# EAGLE library part SI-60062-F (library r2p_connector)
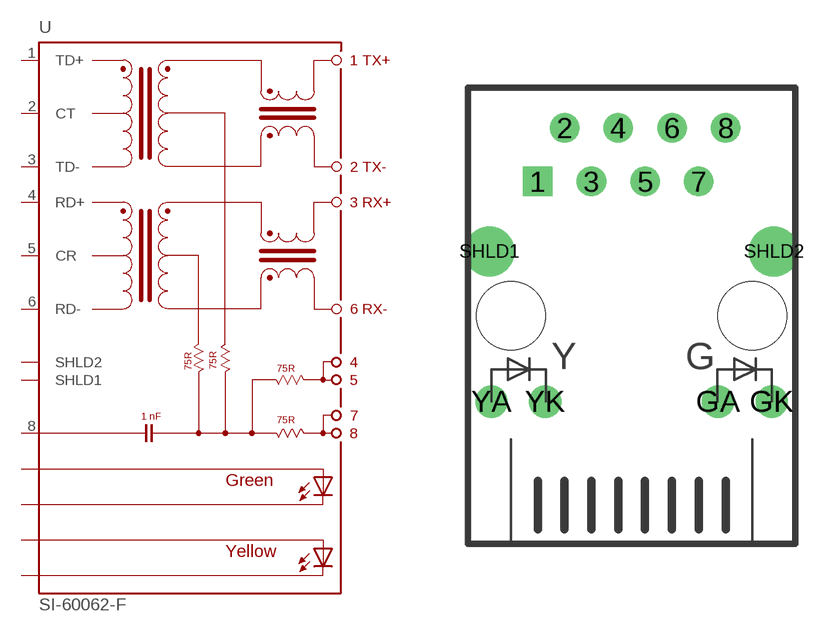
[diagram p2: symbol with the pads of SI-60062-F; footprint SI-60062-F]

Designator prefix -

## SI-60062-F  [SI-60062-F]
1  TD+  pas
2  CT  pas
3  TD-  pas
4  RD+  pas
5  CR  pas
6  RD-  pas
8  8  pas
GA  GA  pas
GK  GK  pas
SHLD1  SHLD1  pas
SHLD2  SHLD2  pas
YA  YA  pas
YK  YK  pas

## Footprint SI-60062-F (pad centres in mm)
drill 0.889 square: 1 -4.445,6.35
drill 0.889: 2 -3.175,8.89; 3 -1.905,6.35; 4 -0.635,8.89; 5 0.635,6.35; 6 1.905,8.89; 7 3.175,6.35; 8 4.445,8.89
drill 1.016: GA 4.089,-4.064; GK 6.629,-4.064; YA -6.629,-4.064; YK -4.089,-4.064
drill 1.575: SHLD1 -6.731,3.048; SHLD2 6.731,3.048
hole 3.251 at 5.715,0
hole 3.251 at -5.715,0